# EAGLE library part RV-4162-C7 (library chips)
This ultra small RTC Module has been specially designed for miniature and cost sensitive high volume applications.
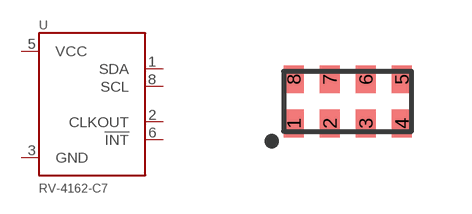
[diagram p11: symbol with the pads of MICRO-CRYSTAL-C7; footprint MICRO-CRYSTAL-C7]

Designator prefix U

## RV-4162-C7 (NEWARK: 09X0517)  [MICRO-CRYSTAL-C7]
1  SDA
2  CLKOUT
3  GND
5  VCC
6  !INT
8  SCL

## Footprint MICRO-CRYSTAL-C7 (pad centres in mm)
smd 0.5 x 0.7: 1 -1.35,-0.55; 2 -0.45,-0.55; 3 0.45,-0.55; 4 1.35,-0.55; 5 1.35,0.55; 6 0.45,0.55; 7 -0.45,0.55; 8 -1.35,0.55